# Altium schematic symbol library SCH - OPTOISOLATORS - TOSHIBA TLX9376.SCHLIB: 1 symbol
Pins are listed as number, name and electrical type; pins without a type are passive.

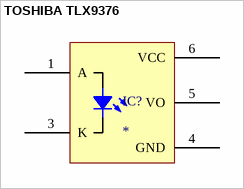
[diagram p0: symbol TOSHIBA TLX9376]

## TOSHIBA TLX9376
designator IC?
pins: 1 A, 3 K, 4 GND, 5 VO, 6 VCC